# EAGLE library part LTC3536EMSETRPBF (library LTC3536EMSETRPBF)
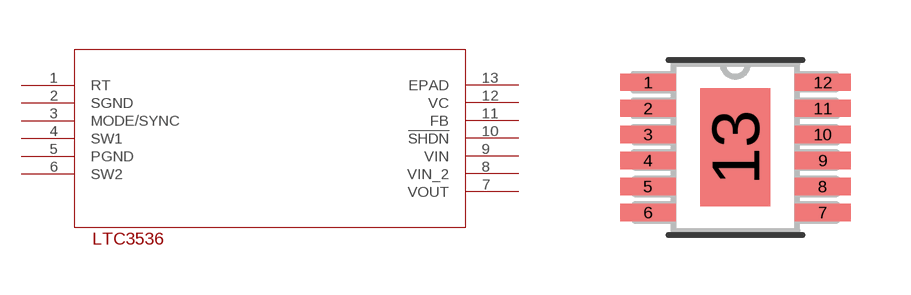
[diagram p0: symbol with the pads of MSOP-12_MSE; footprint MSOP-12_MSE]

Designator prefix U

## LTC3536EMSETRPBF (DESCRIPTION: LTC3536 - 1A Low Noise, Buck-Boost DC/DC Converter; DIGI-KEY_PART_NUMBER: LTC3536EMSE#TRPBFCT-ND; DIGI-KEY_PURCHASE_URL: https://www.digikey.com/product-detail/en/linear-technology-analog-devices/LTC3536EMSE-TRPBF/LTC3536EMSE-TRPBFCT-ND/9761035?utm_source=snapeda&utm_medium=aggregator&utm_campaign=symbol; MF: Linear Technology/Analog; MP: LTC3536EMSE#TRPBF; PACKAGE: TSSOP-12 Linear Technology)  [MSOP-12_MSE]
1  RT  in
2  SGND  pwr
3  MODE/SYNC  pas
4  SW1  pas
5  PGND  pwr
6  SW2  pas
7  VOUT  out
8  VIN_2  in
9  VIN  in
10  !SHDN  in
11  FB  out
12  VC  out
13  EPAD  pas

## Footprint MSOP-12_MSE (pad centres in mm)
smd 1.397 x 0.432: 1 -2.184,1.626; 2 -2.184,0.975; 3 -2.184,0.325; 4 -2.184,-0.325; 5 -2.184,-0.975; 6 -2.184,-1.626; 7 2.184,-1.626; 8 2.184,-0.975; 9 2.184,-0.325; 10 2.184,0.325; 11 2.184,0.975; 12 2.184,1.626
smd 1.753 x 2.946: 13 0,0